# EAGLE library part MCP4361 (library xess)
Microchip MCP4361 Microchip quad-potentiometer with SPI interface.
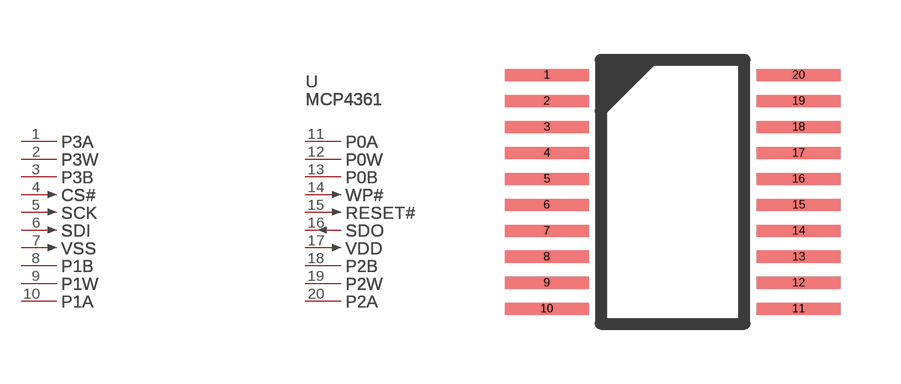
[diagram p160: symbol with the pads of MICROCHIP-20_TSSOP; footprint MICROCHIP-20_TSSOP]

Designator prefix U; gates PART=PV_GATE P3A=PIN_GATE_PAS P3W=PIN_GATE_PAS P3B=PIN_GATE_PAS CS#=PIN_GATE_IN SCK=PIN_GATE_IN SDI=PIN_GATE_IN VSS=PIN_GATE_IN P1B=PIN_GATE_PAS P1W=PIN_GATE_PAS P1A=PIN_GATE_PAS P0A=PIN_GATE_PAS P0W=PIN_GATE_PAS P0B=PIN_GATE_PAS WP#=PIN_GATE_IN RESET#=PIN_GATE_IN SDO=PIN_GATE_OUT VDD=PIN_GATE_IN P2B=PIN_GATE_PAS P2W=PIN_GATE_PAS P2A=PIN_GATE_PAS

## MCP4361-TSSOP20 (DIGIKEY#: MCP4361-103E/ST-ND; MANF: Microchip Technology; MANF#: MCP4361-103E/ST; MOUSER#: 579-MCP4361103E/ST)  [MICROCHIP-20_TSSOP]
1  P3A:1  pas
2  P3W:1  pas
3  P3B:1  pas
4  CS#:1  in
5  SCK:1  in
6  SDI:1  in
7  VSS:1  in
8  P1B:1  pas
9  P1W:1  pas
10  P1A:1  pas
11  P0A:1  pas
12  P0W:1  pas
13  P0B:1  pas
14  WP#:1  in
15  RESET#:1  in
16  SDO:1  out
17  VDD:1  in
18  P2B:1  pas
19  P2W:1  pas
20  P2A:1  pas

## Footprint MICROCHIP-20_TSSOP (pad centres in mm)
Microchip 20-Lead Plastic Thin Shrink Small Outline Package
smd 2.1 x 0.3: 1 -0.325,0; 2 -0.325,-0.65; 3 -0.325,-1.3; 4 -0.325,-1.95; 5 -0.325,-2.6; 6 -0.325,-3.25; 7 -0.325,-3.9; 8 -0.325,-4.55; 9 -0.325,-5.2; 10 -0.325,-5.85; 11 5.975,-5.85; 12 5.975,-5.2; 13 5.975,-4.55; 14 5.975,-3.9; 15 5.975,-3.25; 16 5.975,-2.6; 17 5.975,-1.95; 18 5.975,-1.3; 19 5.975,-0.65; 20 5.975,0